# Altium schematic symbol library Schlib1.SchLib: 24 symbols
Pins are listed as number, name and electrical type; pins without a type are passive.

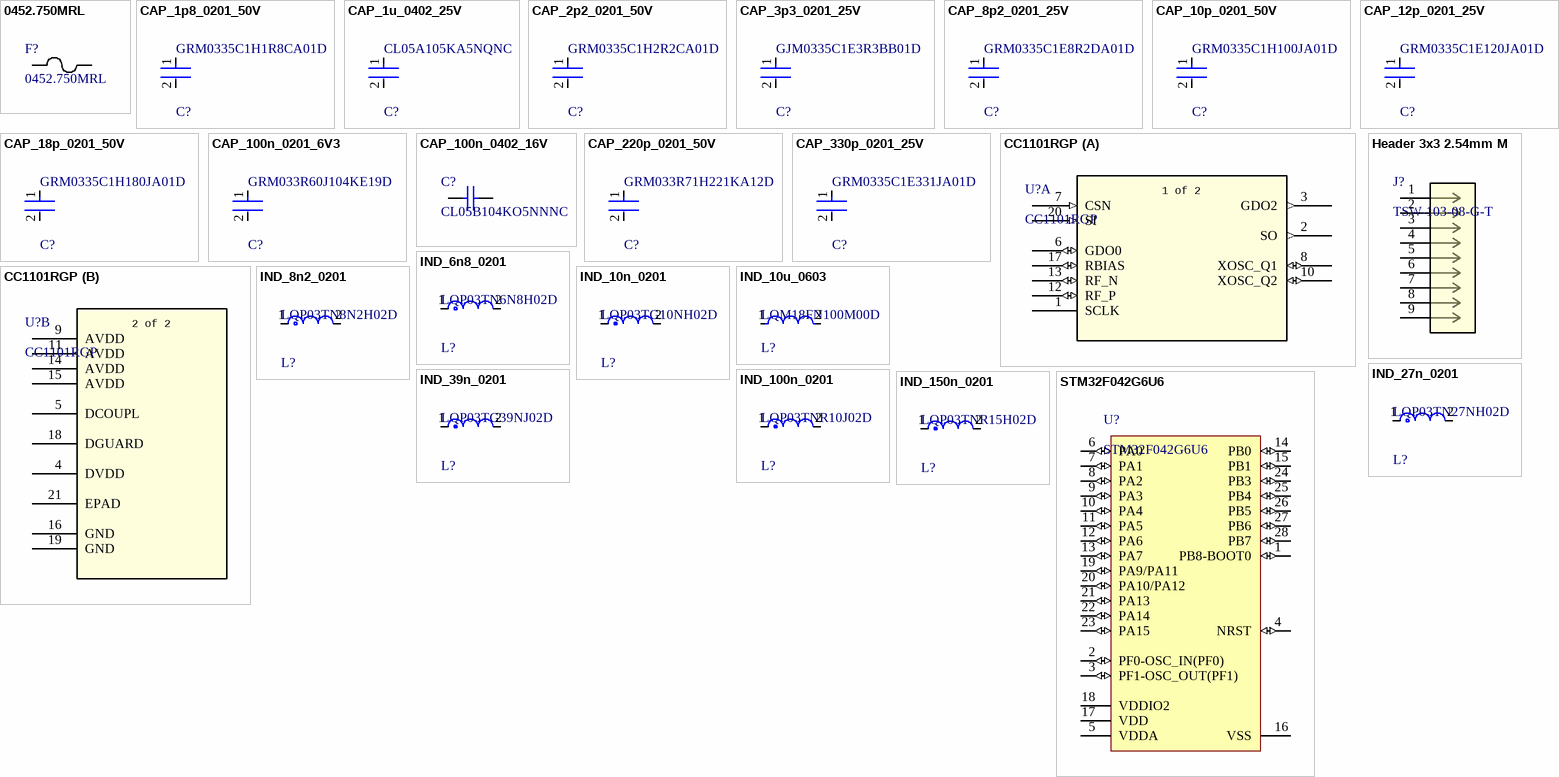
[diagram p0: symbols 0452.750MRL to STM32F042G6U6]

## 0452.750MRL
designator F?
No Description Available; Manufacturer_Name: Littelfuse Inc; Copyright: Copyright (C) 2025 Ultra Librarian. All rights reserved.; Manufacturer_Part_Number: 0452.750MRL
footprint 0452Series_LTF
pins: 1, 2

## CAP_1p8_0201_50V
designator C?, comment GRM0335C1H1R8CA01D
Chip Multilayer Ceramic Capacitors for General Purpose, 0201, 1.8pF, C0G, 30ppm/°C, 0.25pF, 50V; Thickness: 0.013inch; Packaging: Tape and Reel; Voltage Rating: 50V; Height: 0.3mm; Case Code (Metric): 0603; Case/Package: 0201; Min Operating Temperature: -55°C; Voltage Rating (DC): 50V; Termination: SMD/SMT; Mount: Surface Mount; Width: 0.3mm; Package Quantity: 15000; Case Code (Imperial): 0201; Length: 0.024inch; Lead Free: Lead Free; Capacitance: 1.8pF; Dielectric: C0G; Max Operating Temperature: 125°C
footprint FP-GRM033-0_03-IPC_A
footprint FP-GRM033-0_03-IPC_B
footprint FP-GRM033-0_03-MFG
footprint FP-GRM033-0_03-IPC_C
pins: 1, 2

## CAP_1u_0402_25V
designator C?, comment CL05A105KA5NQNC
Cap Ceramic 1uF 25V X5R ±10% SMD 0402 +85°C Paper T/R; Radiation Hardening: No; Lead Free: Lead Free; Capacitance: 1uF; Package Quantity: 10000; Max Operating Temperature: 85°C; Voltage Rating: 25V; Case/Package: 0402; Min Operating Temperature: -55°C; Packaging: Tape and Reel; Tolerance: 10%; Height: 0.5mm; Thickness: 0.022inch; Case Code (Metric): 1005; Width: 0.02inch; Case Code (Imperial): 0402; Dielectric: X5R; Length: 1mm; Mount: Surface Mount; Material: Ceramic; Depth: 0.5mm
footprint FP-CL542-IPC_A
footprint FP-CL542-IPC_C
footprint FP-CL542-IPC_B
pins: 1, 2

## CAP_2p2_0201_50V
designator C?, comment GRM0335C1H2R2CA01D
Chip Multilayer Ceramic Capacitors for General Purpose, 0201, 2.2pF, C0G, 30ppm/°C, 0.25pF, 50V; Depth: 0.3mm; Voltage Rating (DC): 50V; Voltage: 50V; Case Code (Metric): 0603; Termination: SMD/SMT; Thickness: 0.013inch; Min Operating Temperature: -55°C; Max Operating Temperature: 125°C; Package Quantity: 15000; Voltage Rating: 50V; Height: 0.3mm; Packaging: Tape and Reel; Lead Free: Lead Free; Mount: Surface Mount; Width: 0.3mm; Capacitance: 2.2pF; Length: 0.6mm; Dielectric: C0G; Case Code (Imperial): 0201; Case/Package: 0201
footprint FP-GRM033-0_03-IPC_A
footprint FP-GRM033-0_03-IPC_B
footprint FP-GRM033-0_03-MFG
footprint FP-GRM033-0_03-IPC_C
pins: 1, 2

## CAP_3p3_0201_25V
designator C?, comment GJM0335C1E3R3BB01D
Ceramic Capacitor 3.3pF ±0.1pF 25V C0G 0201 (0603 Metric); Length: 0.6mm; Voltage Rating: 25V; Termination: SMD/SMT; Case/Package: 0201; Height: 0.3mm; Dielectric: C0G; Capacitance: 3.3pF; Min Operating Temperature: -55°C; Depth: 0.3mm; Case Code (Metric): 0603; Max Operating Temperature: 125°C; Width: 0.3mm; Case Code (Imperial): 0201; Voltage Rating (DC): 25V; Mount: Surface Mount; Packaging: Tape and Reel; Lead Free: Lead Free; Radiation Hardening: No; Package Quantity: 15000; Thickness: 0.013inch
footprint FP-GJM033-0_03-MFG
footprint FP-GJM033-0_03-IPC_B
footprint FP-GJM033-0_03-IPC_A
footprint FP-GJM033-0_03-IPC_C
pins: 1, 2

## CAP_8p2_0201_25V
designator C?, comment GRM0335C1E8R2DA01D
Chip Multilayer Ceramic Capacitors for General Purpose, 0201, 8.2pF, C0G, 30ppm/°C, 0.5pF, 25V; Lead Free: Lead Free; Dielectric: C0G; Height: 0.3mm; Package Quantity: 1; Thickness: 0.013inch; Max Operating Temperature: 125°C; Capacitance: 8.2pF; Voltage Rating (DC): 25V; Min Operating Temperature: -55°C; REACH SVHC: No SVHC; Width: 0.3mm; Mount: Surface Mount; Packaging: Tape and Reel; Length: 0.024inch; Voltage Rating: 25V; Case Code (Imperial): 0201; Case/Package: 0201; Case Code (Metric): 0603; Termination: SMD/SMT
footprint FP-GRM033-0_03-IPC_A
footprint FP-GRM033-0_03-IPC_B
footprint FP-GRM033-0_03-MFG
footprint FP-GRM033-0_03-IPC_C
pins: 1, 2

## CAP_10p_0201_50V
designator C?, comment GRM0335C1H100JA01D
Chip Multilayer Ceramic Capacitors for General Purpose, 0201, 10pF, C0G, 30ppm/°C, 5%, 50V; Voltage: 50V; Width: 0.3mm; Height: 0.3mm; Depth: 0.3mm; Tolerance: 5%; Package Quantity: 15000; Max Operating Temperature: 125°C; Packaging: Tape and Reel; Case/Package: 0201; Mount: Surface Mount; Case Code (Imperial): 0201; Thickness: 0.013inch; Voltage Rating (DC): 50V; Min Operating Temperature: -55°C; Lead Free: Lead Free; Capacitance: 10pF; Termination: SMD/SMT; Length: 0.6mm; Voltage Rating: 50V; Dielectric: C0G; Case Code (Metric): 0603; REACH SVHC: No SVHC
footprint FP-GRM033-0_03-IPC_A
footprint FP-GRM033-0_03-IPC_B
footprint FP-GRM033-0_03-MFG
footprint FP-GRM033-0_03-IPC_C
pins: 1, 2

## CAP_12p_0201_25V
designator C?, comment GRM0335C1E120JA01D
Chip Multilayer Ceramic Capacitors for General Purpose, 0201, 12pF, C0G, 30ppm/°C, 5%, 25V; Capacitance: 12pF; Min Operating Temperature: -55°C; Width: 0.012inch; Dielectric: C0G; Max Operating Temperature: 125°C; REACH SVHC: No SVHC; Lead Free: Lead Free; Depth: 0.3mm; Voltage: 25V; Tolerance: 5%; Packaging: Tape and Reel; Case/Package: 0201; Length: 0.6mm; Mount: Surface Mount; Package Quantity: 1; Thickness: 0.013inch; Height: 0.3mm; Voltage Rating: 25V; Case Code (Metric): 0603; Case Code (Imperial): 0201; Termination: SMD/SMT; Voltage Rating (DC): 25V
footprint FP-GRM033-0_03-IPC_A
footprint FP-GRM033-0_03-IPC_B
footprint FP-GRM033-0_03-MFG
footprint FP-GRM033-0_03-IPC_C
pins: 1, 2

## CAP_18p_0201_50V
designator C?, comment GRM0335C1H180JA01D
Chip Multilayer Ceramic Capacitors for General Purpose, 0201, 18pF, C0G, 30ppm/°C, 5%, 50V; Max Operating Temperature: 125°C; Case Code (Metric): 0603; Case Code (Imperial): 0201; Capacitance: 18pF; Voltage Rating (DC): 50V; Lead Free: Lead Free; Mount: Surface Mount; Radiation Hardening: No; Height: 0.3mm; Package Quantity: 15000; Depth: 0.3mm; Tolerance: 5%; Thickness: 0.013inch; Width: 0.3mm; Packaging: Tape and Reel; Voltage Rating: 50V; Dielectric: C0G; Length: 0.6mm; Termination: SMD/SMT; Min Operating Temperature: -55°C; Case/Package: 0201; Voltage: 50V
footprint FP-GRM033-0_03-IPC_A
footprint FP-GRM033-0_03-IPC_B
footprint FP-GRM033-0_03-MFG
footprint FP-GRM033-0_03-IPC_C
pins: 1, 2

## CAP_100n_0201_6V3
designator C?, comment GRM033R60J104KE19D
Chip Multilayer Ceramic Capacitors for General Purpose, 0201, 0.10uF, X5R, 15%, 10%, 6.3V; Capacitance: 100nF; Min Operating Temperature: -55°C; Lead Free: Lead Free; Radiation Hardening: No; Dielectric: X5R; Voltage Rating (DC): 6.3V; REACH SVHC: No SVHC; Case/Package: 0201; Voltage Rating: 6.3V; Length: 0.6mm; Max Operating Temperature: 85°C; Width: 0.012inch; Depth: 0.3mm; Material: Ceramic; Case Code (Metric): 0603; Thickness: 0.013inch; Packaging: Tape and Reel; Height: 0.3mm; Weight: 6E-06oz; Package Quantity: 1; Mount: Surface Mount; Voltage: 6.3V; Case Code (Imperial): 0201; Tolerance: 10%; Termination: SMD/SMT
footprint FP-GRM033-0_03-IPC_A
pins: 1, 2

## CAP_100n_0402_16V
designator C?, comment CL05B104KO5NNNC
Chip Capacitor, 100 nF, +/- 10%, 16 V, -55 to 125 degC, 0402 (1005 Metric), RoHS, Tape and Reel; Manufacturer: Samsung Electro-Mechanics; Capacitance: 100000pF; Dielectric: X7R; Rated Voltage: 16V; Case Size/Dimension: 0402; Tolerance (%): ±10%; Manufacturer URL: http://www.samsungsem.com/global/index.jsp; Datasheet URL: https://datasheet.ciiva.com/29198/458718-da-01-en-vs-kondensator-0402-29198423.pdf; Datasheet Version: Nov-10
footprint CAPC1050X55X23NL05T13 (Chip Capacitor, 2-Leads, Body 1.05x0.55mm, IPC Medium Density)
footprint CAPC1050X55X23ML05T13 (Chip Capacitor, 2-Leads, Body 1.05x0.55mm, IPC Low Density)
footprint CAPC1050X55X23LL05T13 (Chip Capacitor, 2-Leads, Body 1.05x0.55mm, IPC High Density)
pins: 1, 2

## CAP_220p_0201_50V
designator C?, comment GRM033R71H221KA12D
Chip Multilayer Ceramic Capacitors for General Purpose, 0201, 220pF, X7R, 15%, 10%, 50V; Case Code (Metric): 0603; Capacitance: 220pF; Depth: 0.3mm; Max Operating Temperature: 125°C; Tolerance: 10%; Resistor Type: Ceramic; Thickness: 0.013inch; Case/Package: 0201; Mount: Surface Mount; Termination: SMD/SMT; Voltage Rating: 50V; Package Quantity: 15000; Packaging: Tape and Reel; Case Code (Imperial): 0201; Voltage Rating (DC): 50V; Min Operating Temperature: -55°C; Width: 0.3mm; Weight: 1.2E-05oz; Length: 0.6mm; Height: 0.3mm; Dielectric: X7R
footprint FP-GRM033-0_03-IPC_A
footprint FP-GRM033-0_03-IPC_B
footprint FP-GRM033-0_03-MFG
footprint FP-GRM033-0_03-IPC_C
pins: 1, 2

## CAP_330p_0201_25V
designator C?, comment GRM0335C1E331JA01D
CAP CER 330PF 25V C0G 0201; Tolerance: 5%; RoHS Compliant: Yes; Case/Package: 0201; Thickness: 300um; Width: 300um; Length: 600um; Capacitance: 330pF; Voltage Rating (DC): 25V; Dielectric: C0G
footprint FP-GRM033-0_03-IPC_A
footprint FP-GRM033-0_03-IPC_B
footprint FP-GRM033-0_03-MFG
footprint FP-GRM033-0_03-IPC_C
pins: 1, 2

## CC1101RGP
designator U?
Low-power Sub-1 GHz wireless transceiver 20-QFN -40 to 85; Manufacturer_Name: Texas Instruments; Copyright: Copyright (C) 2025 Ultra Librarian. All rights reserved.; Manufacturer_Part_Number: CC1101RGP; RefDes: RefDes; Type: Type
footprint RGP20_2P4X2P4
part A pins: 1 SCLK, 2 SO (out), 3 GDO2 (out), 6 GDO0 (io), 7 CSN (in), 8 XOSC_Q1 (io), 10 XOSC_Q2 (io), 12 RF_P (io), 13 RF_N (io), 17 RBIAS (io), 20 SI (in)
part B pins: 4 DVDD (power), 5 DCOUPL (power), 9 AVDD (power), 11 AVDD (power), 14 AVDD (power), 15 AVDD (power), 16 GND (power), 18 DGUARD (power), 19 GND (power), 21 EPAD (power)
part A text: 1 of 2
part B text: 2 of 2

## Header 3x3 2.54mm M
designator J?, comment TSW-103-08-G-T
TSW-103-08-G-T P=2.54mm 3 9P; Manufacturer_Name: Samtec Inc; Copyright: Copyright (C) 2025 Ultra Librarian. All rights reserved.; Manufacturer_Part_Number: TSW-103-08-G-T; RefDes: RefDes; Type: Type
footprint CON9_3X3_TU3_TSW_SAI
pins: 1, 2, 3, 4, 5, 6, 7, 8, 9

## IND_6n8_0201
designator L?, comment LQP03TN6N8H02D
Film type RF Inductor 6.8nH ±3% 300mA 0.6Ω 0201 (0603); Test Frequency: 500MHz; Current: 250mA; DC Resistance (DCR): 600mR; Q Factor: 14; Shielding: Unshielded; Self Resonant Frequency: 3.9GHz; Core Material: Non-Magnetic; Current Rating: 300mA; Height: 0.3mm; Case Code (Metric): 0603; Length: 0.6mm; Min Operating Temperature: -55°C; Max DC Current: 300mA; Mount: Surface Mount; Height - Seated (Max): 0.013inch; Military Standard: Not; Max Operating Temperature: 125°C; Packaging: Tape and Reel; Case/Package: 0201; Resistor Type: Thin Film; Tolerance: 3%; Depth: 0.33mm; Termination: SMD/SMT; Width: 0.3mm; DC Current: 300mA; Case Code (Imperial): 0201; Inductance: 6.8nH; Lead Free: Lead Free; Radiation Hardening: No; Package Quantity: 1
footprint FP-LQP03TG_02-MFG
footprint FP-LQP03TG_02-IPC_C
footprint FP-LQP03TG_02-IPC_B
footprint FP-LQP03TG_02-IPC_A
pins: 1, 2

## IND_8n2_0201
designator L?, comment LQP03TN8N2H02D
Film type RF Inductor 8.2nH ±3% 250mA 0.7Ω 0201 (0603); DC Resistance (DCR): 700mR; Q Factor: 14; Self Resonant Frequency: 3.6GHz; Current: 140mA; Shielding: Unshielded; Test Frequency: 500MHz; Core Material: Non-Magnetic; Height - Seated (Max): 0.013inch; Current Rating: 250mA; Case Code (Imperial): 0201; Max DC Current: 250mA; Lead Free: Lead Free; Radiation Hardening: No; Depth: 0.33mm; Height: 0.3mm; DC Current: 250mA; Length: 0.6mm; Case Code (Metric): 0603; REACH SVHC: No SVHC; Min Operating Temperature: -55°C; Military Standard: Not; Tolerance: 3%; Packaging: Tape and Reel; Width: 0.012inch; Inductance: 8.2nH; Max Operating Temperature: 125°C; Resistor Type: Thin Film; Termination: SMD/SMT; Mount: Surface Mount; Case/Package: 0201; Inductance Tolerance: 3%; Package Quantity: 15000
footprint FP-LQP03TG_02-MFG
footprint FP-LQP03TG_02-IPC_C
footprint FP-LQP03TG_02-IPC_B
footprint FP-LQP03TG_02-IPC_A
pins: 1, 2

## IND_10n_0201
designator L?, comment LQP03TG10NH02D
Film type RF Inductor 10nH ±3% 190mA 1.52Ω 0201 (0603); Self Resonant Frequency: 4.5GHz; Test Frequency: 500MHz; DC Resistance (DCR): 1.52R; Shielding: Unshielded; Length: 0.024inch; Mount: Surface Mount; Depth: 0.33mm; Current Rating: 190mA; Width: 0.012inch; Min Operating Temperature: -55°C; Resistor Type: Thin Film; DC Current: 190mA; Case/Package: 0201; Tolerance: 3%; Package Quantity: 15000; Height - Seated (Max): 0.013inch; Max Operating Temperature: 125°C; Military Standard: Not; Inductance: 10nH; Packaging: Tape and Reel
footprint FP-LQP03PN_02-MFG
footprint FP-LQP03PN_02-IPC_C
footprint FP-LQP03PN_02-IPC_B
footprint FP-LQP03PN_02-IPC_A
pins: 1, 2

## IND_10u_0603
designator L?, comment LQM18FN100M00D
FIXED IND 10UH 50MA 900 MOHM SMD; Self Resonant Frequency: 30MHz; Tolerance: 20%; DC Resistance (DCR): 1.17R; Core Material: Ferrite; Shielding: Shielded; Test Frequency: 1MHz; Packaging: Tape and Reel; Max DC Current: 50mA; Depth: 0.9mm; DC Current: 50mA; Case/Package: 0603; Saturation Current: 50mA; Height - Seated (Max): 0.035inch; Package Quantity: 4000; Case Code (Metric): 1608; RoHS Compliant: Yes; Military Standard: Not; Current Rating: 50mA; Max Operating Temperature: 125°C; Height: 0.9mm; Inductance: 10uH; Series: LQM18F; Radiation Hardening: No; Lead Free: Lead Free; Termination: SMD/SMT; Length: 0.063inch; Mount: Surface Mount; Case Code (Imperial): 0603; Width: 0.031inch; Min Operating Temperature: -55°C
footprint FP-LQM18FN_00-IPC_B
footprint FP-LQM18FN_00-IPC_C
footprint FP-LQM18FN_00-MFG
footprint FP-LQM18FN_00-IPC_A
pins: 1, 2

## IND_27n_0201
designator L?, comment LQP03TN27NH02D
Film type RF Inductor 27nH ±3% 140mA 2.3Ω 0201 (0603); Core Material: Non-Magnetic; DC Resistance (DCR): 2.3R; Test Frequency: 500MHz; Shielding: Unshielded; Self Resonant Frequency: 2GHz; Q Factor: 12; Tolerance: 3%; Military Standard: Not; Mount: Surface Mount; Case Code (Imperial): 0201; Length: 0.024inch; Height - Seated (Max): 0.013inch; Case/Package: 0201; Resistor Type: Thin Film; Termination: SMD/SMT; Package Quantity: 15000; Radiation Hardening: No; Case Code (Metric): 0603; Max Operating Temperature: 125°C; Depth: 0.33mm; Max DC Current: 140mA; Current Rating: 140mA; DC Current: 140mA; Inductance: 27nH; Height: 0.012inch; Min Operating Temperature: -55°C; Packaging: Tape and Reel; Width: 0.012inch
footprint FP-LQP03TG_02-MFG
footprint FP-LQP03TG_02-IPC_C
footprint FP-LQP03TG_02-IPC_B
footprint FP-LQP03TG_02-IPC_A
pins: 1, 2

## IND_39n_0201
designator L?, comment LQP03TG39NJ02D
Film type RF Inductor 39nH ±5% 110mA 4.6Ω 0201 (0603); Q Factor: 7; Test Frequency: 300MHz; DC Resistance (DCR): 4.6R; Self Resonant Frequency: 1.5GHz; Shielding: Unshielded; Inductance: 39nH; Height: 0.3mm; Mount: Surface Mount; Case Code (Metric): 0603; Case/Package: 0201; Length: 0.024inch; Case Code (Imperial): 0201; Max Operating Temperature: 125°C; Current Rating: 110mA; Packaging: Tape and Reel; Package Quantity: 15000; Tolerance: 5%; Max DC Current: 110mA; Min Operating Temperature: -55°C; Resistor Type: Thin Film; Width: 0.012inch; Termination: SMD/SMT; Height - Seated (Max): 0.013inch
footprint FP-LQP03PN_02-MFG
footprint FP-LQP03PN_02-IPC_C
footprint FP-LQP03PN_02-IPC_B
footprint FP-LQP03PN_02-IPC_A
pins: 1, 2

## IND_100n_0201
designator L?, comment LQP03TNR10J02D
Film type RF Inductor 100nH ±5% 80mA 10Ω 0201 (0603); Test Frequency: 300MHz; DC Resistance (DCR): 10R; Core Material: Non-Magnetic; DC Current: 40mA; Shielding: Unshielded; Q Factor: 8; Self Resonant Frequency: 900MHz; Current Rating: 80mA; Case Code (Metric): 0603; Case Code (Imperial): 0201; Inductance: 100nH; Packaging: Tape and Reel; Case/Package: 0201; Lead Free: Lead Free; Max DC Current: 80mA; Resistor Type: Thin Film; Military Standard: Not; Termination: SMD/SMT; Depth: 0.33mm; Tolerance: 5%; Mount: Surface Mount; Package Quantity: 15000; Min Operating Temperature: -55°C; Length: 0.024inch; Height: 0.3mm; Width: 0.3mm; Max Operating Temperature: 125°C; Height - Seated (Max): 0.013inch
footprint FP-LQP03PN_02-MFG
footprint FP-LQP03PN_02-IPC_C
footprint FP-LQP03PN_02-IPC_B
footprint FP-LQP03PN_02-IPC_A
pins: 1, 2

## IND_150n_0201
designator L?, comment LQP03TNR15H02D
Film type RF Inductor 150nH ±3% 80mA 9Ω 0201 (0603); Self Resonant Frequency: 650MHz; Test Frequency: 100MHz; Shielding: Unshielded; DC Resistance (DCR): 9R; Core Material: Non-Magnetic; Q Factor: 5; Case Code (Imperial): 0201; Height: 0.3mm; Current Rating: 80mA; Weight: 6E-06oz; Resistor Type: Thin Film; Termination: SMD/SMT; Inductance: 150nH; Length: 0.024inch; Max Operating Temperature: 125°C; Package Quantity: 15000; Case Code (Metric): 0603; Packaging: Tape and Reel; Height - Seated (Max): 0.013inch; Width: 0.3mm; Case/Package: 0201; Min Operating Temperature: -55°C; Max DC Current: 80mA; Mount: Surface Mount; Tolerance: 3%
footprint FP-LQP03PN_02-MFG
footprint FP-LQP03PN_02-IPC_C
footprint FP-LQP03PN_02-IPC_B
footprint FP-LQP03PN_02-IPC_A
pins: 1, 2

## STM32F042G6U6
designator U?
ARM Cortex-M0 32-bit MCU, 32 KB Flash, 6 KB Internal RAM, 24 I/Os, 28-Pin UFQFPN, -40 to 85 degC, Tray; Manufacturer: STMicroelectronics; FLASH Size (Prog) (kB): 32; I/Os (High Current): 24; Internal RAM Size (kB): 6; Supply Voltage(Vcc) min (V): 2; Operating Frequency(F) (Processor speed) (MHz): 48; Core: ARM Cortex-M0; PartNumber: STM32F042G6U6; Packing: Tray; Package Description: 28-Pin Ultra Thin Fine Pitch Quad Flat No-Lead, 4 x 4 x 0.6 mm Body, 0.5 mm Pitch; ComponentLink2Description: Datasheet; ComponentLink1Description: Manufacturer URL; Package Reference: UFQFPN28; DatasheetVersion: Rev. 5; ComponentLink1URL: http://www.st.com/; ComponentLink2URL: http://www.st.com/st-web-ui/static/active/en/resource/technical/document/datasheet/DM00105814.pdf; Mounting Technology: Surface Mount
footprint STM-UFQFPN28_V (QFN, 28-Leads, Body 4.1x4.1mm, Pitch 0.5mm)
pins: 1 PB8-BOOT0 (io) "PB8-BOOT0/I2C1_SCL,CEC,TIM16_CH1,TSC_SYNC,CAN_RX", 2 PF0-OSC_IN(PF0) (io) "PF0/CRS_SYNC,I2C1_SDA/OSC_IN", 3 PF1-OSC_OUT(PF1) (io) "PF1/I2C1_SCL/OSC_OUT", 4 NRST (io) "Device reset input/internal reset output(active low)", 5 VDDA (power) "Analog power supply", 6 PA0 (io) "PA0/USART2_CTS,TIM2_CH1_ETR,TSC_G1_IO1/RTC_TAMP2,WKUP1,ADC_IN0", 7 PA1 (io) "PA1/USART2_RTS,TIM2_CH2,TSC_G1_IO2,EVENTOUT/ADC_IN1", 8 PA2 (io) "PA2/USART2_TX,TIM2_CH3,TSC_G1_IO3/ADC_IN2,WKUP4", 9 PA3 (io) "PA3/USART2_RX,TIM2_CH4,TSC_G1_IO4/ADC_IN3", 10 PA4 (io) "PA4/SPI1_NSS,I2S1_WS,TIM14_CH1,TSC_G2_IO1,USART2_CK,USB_NOE/ADC_IN4", 11 PA5 (io) "PA5/SPI1_SCK,I2S1_CK,CEC,TIM2_CH1_ETR,TSC_G2_IO2/ADC_IN5", 12 PA6 (io) "PA6/SPI1_MISO,I2S1_MCK,TIM3_CH1,TIM1_BKIN,TIM16_CH1,TSC_G2_IO3,EVENTOUT/ADC_IN6", 13 PA7 (io) "PA7/SPI1_MOSI,I2S1_SD,TIM3_CH2,TIM14_CH1,TIM1_CH1N,TIM17_CH1,TSC_G2_IO4,EVENTOUT/ADC_IN7", 14 PB0 (io) "PB0/TIM3_CH3,TIM1_CH2N,TSC_G3_IO2,EVENTOUT/ADC_IN8", 15 PB1 (io) "PB1/TIM3_CH4,TIM14_CH1,TIM1_CH3N,TSC_G3_IO3/ADC_IN9", 16 VSS (power) "Ground", 17 VDD (power) "Digital power supply", 18 VDDIO2 (power) "Digital power supply", 19 PA9/PA11 (io) "PA9/USART1_TX,TIM1_CH2,TSC_G4_IO1,I2C1_SCL/PA11/CAN_RX,USART1_CTS,TIM1_CH4,TSC_G4_IO3,EVENTOUT,I2C1_SCL/USB_DM", 20 PA10/PA12 (io) "PA10/USART1_RX,TIM1_CH3,TIM17_BKIN,TSC_G4_IO2,I2C1_SDA/PA12/CAN_TX,USART1_RTS,TIM1_ETR,TSC_G4_IO4,EVENTOUT,I2C1_SDA/USB_DP", 21 PA13 (io) "PA13/IR_OUT,SWDIO,USB_NOE", 22 PA14 (io) "PA14/USART2_TX,SWCLK", 23 PA15 (io) "PA15/SPI1_NSS,I2S1_WS,USART2_RX,TIM2_CH1_ETR,EVENTOUT,USB_NOE", 24 PB3 (io) "PB3/SPI1_SCK,I2S1_CK,TIM2_CH2,TSC_G5_IO1,EVENTOUT", 25 PB4 (io) "PB4/SPI1_MISO,I2S1_MCK,TIM17_BKIN,TIM3_CH1,TSC_G5_IO2,EVENTOUT", 26 PB5 (io) "PB5/SPI1_MOSI,I2S1_SD,I2C1_SMBA,TIM16_BKIN,TIM3_CH2/WKUP6", 27 PB6 (io) "PB6/I2C1_SCL,USART1_TX,TIM16_CH1N,TSC_G5_I03", 28 PB7 (io) "PB7/I2C1_SDA,USART1_RX,TIM17_CH1N,TSC_G5_IO4"